# Altium footprint library SP-140520.PcbLib: 39 footprints (part 5 of 6)
Each footprint in its own frame and in the unit in brackets; x right, y up, seen from the top. Pads: shape width x height; smd on the part's side, far side on the other; paste and mask are expansions set on the pad; w line width, h text height; cw(c..) or ccw(c..) is an arc to the next point about the centre after c.
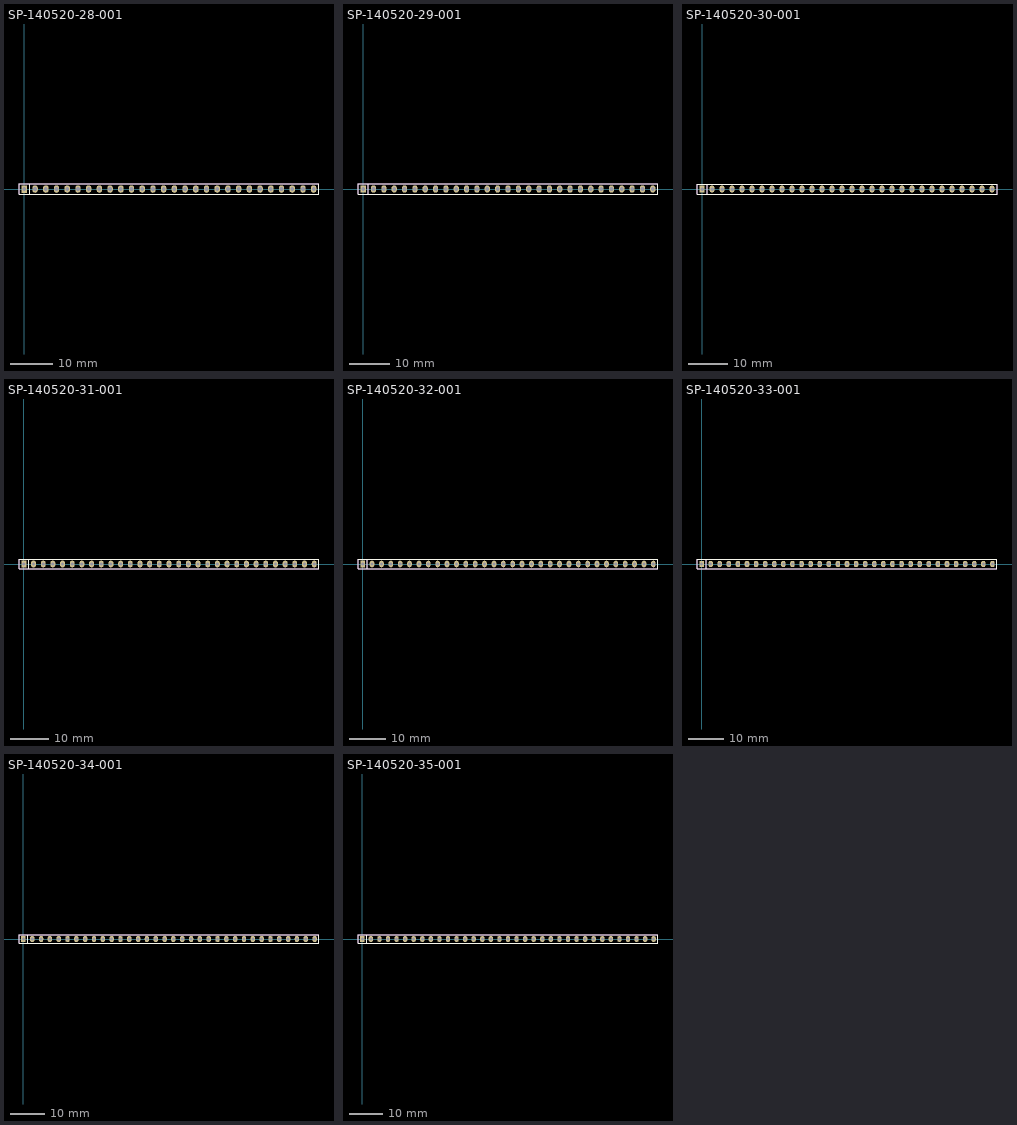
[diagram p4: the footprints below, top view; thin cyan lines are the x and y axes]

## SP-140520-28-001 [mil] "2.54mm Pitch Socket, Single Row, Straight"
pads (28):
  rect 50x70 hole 35: 1(0,0)
  oval 50x70 hole 35: 2(100,0) 3(200,0) 4(300,0) 5(400,0) 6(500,0) 7(600,0) 8(700,0) 9(800,0) 10(900,0) 11(1000,0) 12(1100,0) 13(1200,0) 14(1300,0) 15(1400,0) 16(1500,0) 17(1600,0) 18(1700,0) 19(1800,0) 20(1900,0) 21(2000,0) 22(2100,0) 23(2200,0) 24(2300,0) 25(2400,0) 26(2500,0) 27(2600,0) 28(2700,0)
Top Overlay:
  lines w7.87: 50,-50 50,50 ; -50,-50 -50,50 2750,50 2750,-50 -50,-50
Mechanical 1:
  lines w7.87: 50,-50 50,50 ; -50,-50 2750,-50 2750,50 -50,50 -50,-50
3D body: height 59.06, standoff 0, extent -50.2,-50.2 50.2,50.2
3D body: height 78.74, standoff -413.39, extent -15.75,-15.75 15.75,15.75
3D body: height 334.65, standoff 59.06, extent -50.2,26.57 50.2,50.2
3D body: height 334.65, standoff 59.06, extent -50.2,-50.2 50.2,-26.57
3D body: height 334.65, standoff 59.06, extent 26.57,-26.57 50.2,26.57
3D body: height 334.65, standoff 59.06, extent -50.2,-26.57 -26.57,26.57
3D body: height 59.06, standoff 0, extent 49.8,-50.2 150.2,50.2
3D body: height 78.74, standoff -413.39, extent 84.25,-15.75 115.75,15.75
3D body: height 334.65, standoff 59.06, extent 49.8,26.57 150.2,50.2
3D body: height 334.65, standoff 59.06, extent 49.8,-50.2 150.2,-26.57
3D body: height 334.65, standoff 59.06, extent 126.57,-26.57 150.2,26.57
3D body: height 334.65, standoff 59.06, extent 49.8,-26.57 73.43,26.57
3D body: height 59.06, standoff 0, extent 149.8,-50.2 250.2,50.2
3D body: height 78.74, standoff -413.39, extent 184.25,-15.75 215.75,15.75
3D body: height 334.65, standoff 59.06, extent 149.8,26.57 250.2,50.2
3D body: height 334.65, standoff 59.06, extent 149.8,-50.2 250.2,-26.57
3D body: height 334.65, standoff 59.06, extent 226.57,-26.57 250.2,26.57
3D body: height 334.65, standoff 59.06, extent 149.8,-26.57 173.43,26.57
3D body: height 59.06, standoff 0, extent 249.8,-50.2 350.2,50.2
3D body: height 78.74, standoff -413.39, extent 284.25,-15.75 315.75,15.75
3D body: height 334.65, standoff 59.06, extent 249.8,26.57 350.2,50.2
3D body: height 334.65, standoff 59.06, extent 249.8,-50.2 350.2,-26.57
3D body: height 334.65, standoff 59.06, extent 326.57,-26.57 350.2,26.57
3D body: height 334.65, standoff 59.06, extent 249.8,-26.57 273.43,26.57
3D body: height 59.06, standoff 0, extent 349.8,-50.2 450.2,50.2
3D body: height 78.74, standoff -413.39, extent 384.25,-15.75 415.75,15.75
3D body: height 334.65, standoff 59.06, extent 349.8,26.57 450.2,50.2
3D body: height 334.65, standoff 59.06, extent 349.8,-50.2 450.2,-26.57
3D body: height 334.65, standoff 59.06, extent 426.57,-26.57 450.2,26.57
3D body: height 334.65, standoff 59.06, extent 349.8,-26.57 373.43,26.57
3D body: height 59.06, standoff 0, extent 449.8,-50.2 550.2,50.2
3D body: height 78.74, standoff -413.39, extent 484.25,-15.75 515.75,15.75
3D body: height 334.65, standoff 59.06, extent 449.8,26.57 550.2,50.2
3D body: height 334.65, standoff 59.06, extent 449.8,-50.2 550.2,-26.57
3D body: height 334.65, standoff 59.06, extent 526.57,-26.57 550.2,26.57
3D body: height 334.65, standoff 59.06, extent 449.8,-26.57 473.43,26.57
3D body: height 59.06, standoff 0, extent 549.8,-50.2 650.2,50.2
3D body: height 78.74, standoff -413.39, extent 584.25,-15.75 615.75,15.75
3D body: height 334.65, standoff 59.06, extent 549.8,26.57 650.2,50.2
3D body: height 334.65, standoff 59.06, extent 549.8,-50.2 650.2,-26.57
3D body: height 334.65, standoff 59.06, extent 626.57,-26.57 650.2,26.57
3D body: height 334.65, standoff 59.06, extent 549.8,-26.57 573.43,26.57
3D body: height 59.06, standoff 0, extent 649.8,-50.2 750.2,50.2
3D body: height 78.74, standoff -413.39, extent 684.25,-15.75 715.75,15.75
3D body: height 334.65, standoff 59.06, extent 649.8,26.57 750.2,50.2
3D body: height 334.65, standoff 59.06, extent 649.8,-50.2 750.2,-26.57
3D body: height 334.65, standoff 59.06, extent 726.57,-26.57 750.2,26.57
3D body: height 334.65, standoff 59.06, extent 649.8,-26.57 673.43,26.57
3D body: height 59.06, standoff 0, extent 749.8,-50.2 850.2,50.2
3D body: height 78.74, standoff -413.39, extent 784.25,-15.75 815.75,15.75
3D body: height 334.65, standoff 59.06, extent 749.8,26.57 850.2,50.2
3D body: height 334.65, standoff 59.06, extent 749.8,-50.2 850.2,-26.57
3D body: height 334.65, standoff 59.06, extent 826.57,-26.57 850.2,26.57
3D body: height 334.65, standoff 59.06, extent 749.8,-26.57 773.43,26.57
3D body: height 59.06, standoff 0, extent 849.8,-50.2 950.2,50.2
3D body: height 78.74, standoff -413.39, extent 884.25,-15.75 915.75,15.75
3D body: height 334.65, standoff 59.06, extent 849.8,26.57 950.2,50.2
3D body: height 334.65, standoff 59.06, extent 849.8,-50.2 950.2,-26.57
3D body: height 334.65, standoff 59.06, extent 926.57,-26.57 950.2,26.57
3D body: height 334.65, standoff 59.06, extent 849.8,-26.57 873.43,26.57
3D body: height 59.06, standoff 0, extent 949.8,-50.2 1050.2,50.2
3D body: height 78.74, standoff -413.39, extent 984.25,-15.75 1015.75,15.75
3D body: height 334.65, standoff 59.06, extent 949.8,26.57 1050.2,50.2
3D body: height 334.65, standoff 59.06, extent 949.8,-50.2 1050.2,-26.57
3D body: height 334.65, standoff 59.06, extent 1026.57,-26.57 1050.2,26.57
3D body: height 334.65, standoff 59.06, extent 949.8,-26.57 973.43,26.57
3D body: height 59.06, standoff 0, extent 1049.8,-50.2 1150.2,50.2
3D body: height 78.74, standoff -413.39, extent 1084.25,-15.75 1115.75,15.75
3D body: height 334.65, standoff 59.06, extent 1049.8,26.57 1150.2,50.2
3D body: height 334.65, standoff 59.06, extent 1049.8,-50.2 1150.2,-26.57
3D body: height 334.65, standoff 59.06, extent 1126.57,-26.57 1150.2,26.57
3D body: height 334.65, standoff 59.06, extent 1049.8,-26.57 1073.43,26.57
3D body: height 59.06, standoff 0, extent 1149.8,-50.2 1250.2,50.2
3D body: height 78.74, standoff -413.39, extent 1184.25,-15.75 1215.75,15.75
3D body: height 334.65, standoff 59.06, extent 1149.8,26.57 1250.2,50.2
3D body: height 334.65, standoff 59.06, extent 1149.8,-50.2 1250.2,-26.57
3D body: height 334.65, standoff 59.06, extent 1226.57,-26.57 1250.2,26.57
3D body: height 334.65, standoff 59.06, extent 1149.8,-26.57 1173.43,26.57
3D body: height 59.06, standoff 0, extent 1249.8,-50.2 1350.2,50.2
3D body: height 78.74, standoff -413.39, extent 1284.25,-15.75 1315.75,15.75
3D body: height 334.65, standoff 59.06, extent 1249.8,26.57 1350.2,50.2
3D body: height 334.65, standoff 59.06, extent 1249.8,-50.2 1350.2,-26.57
3D body: height 334.65, standoff 59.06, extent 1326.57,-26.57 1350.2,26.57
3D body: height 334.65, standoff 59.06, extent 1249.8,-26.57 1273.43,26.57
3D body: height 59.06, standoff 0, extent 1349.8,-50.2 1450.2,50.2
3D body: height 78.74, standoff -413.39, extent 1384.25,-15.75 1415.75,15.75
3D body: height 334.65, standoff 59.06, extent 1349.8,26.57 1450.2,50.2
3D body: height 334.65, standoff 59.06, extent 1349.8,-50.2 1450.2,-26.57
3D body: height 334.65, standoff 59.06, extent 1426.57,-26.57 1450.2,26.57
3D body: height 334.65, standoff 59.06, extent 1349.8,-26.57 1373.43,26.57
3D body: height 59.06, standoff 0, extent 1449.8,-50.2 1550.2,50.2
3D body: height 78.74, standoff -413.39, extent 1484.25,-15.75 1515.75,15.75
3D body: height 334.65, standoff 59.06, extent 1449.8,26.57 1550.2,50.2
3D body: height 334.65, standoff 59.06, extent 1449.8,-50.2 1550.2,-26.57
3D body: height 334.65, standoff 59.06, extent 1526.57,-26.57 1550.2,26.57
3D body: height 334.65, standoff 59.06, extent 1449.8,-26.57 1473.43,26.57
3D body: height 59.06, standoff 0, extent 1549.8,-50.2 1650.2,50.2
3D body: height 78.74, standoff -413.39, extent 1584.25,-15.75 1615.75,15.75
3D body: height 334.65, standoff 59.06, extent 1549.8,26.57 1650.2,50.2
3D body: height 334.65, standoff 59.06, extent 1549.8,-50.2 1650.2,-26.57
3D body: height 334.65, standoff 59.06, extent 1626.57,-26.57 1650.2,26.57
3D body: height 334.65, standoff 59.06, extent 1549.8,-26.57 1573.43,26.57
3D body: height 59.06, standoff 0, extent 1649.8,-50.2 1750.2,50.2
3D body: height 78.74, standoff -413.39, extent 1684.25,-15.75 1715.75,15.75
3D body: height 334.65, standoff 59.06, extent 1649.8,26.57 1750.2,50.2
3D body: height 334.65, standoff 59.06, extent 1649.8,-50.2 1750.2,-26.57
3D body: height 334.65, standoff 59.06, extent 1726.57,-26.57 1750.2,26.57
3D body: height 334.65, standoff 59.06, extent 1649.8,-26.57 1673.43,26.57
3D body: height 59.06, standoff 0, extent 1749.8,-50.2 1850.2,50.2
3D body: height 78.74, standoff -413.39, extent 1784.25,-15.75 1815.75,15.75
3D body: height 334.65, standoff 59.06, extent 1749.8,26.57 1850.2,50.2
3D body: height 334.65, standoff 59.06, extent 1749.8,-50.2 1850.2,-26.57
3D body: height 334.65, standoff 59.06, extent 1826.57,-26.57 1850.2,26.57
3D body: height 334.65, standoff 59.06, extent 1749.8,-26.57 1773.43,26.57
3D body: height 59.06, standoff 0, extent 1849.8,-50.2 1950.2,50.2
3D body: height 78.74, standoff -413.39, extent 1884.25,-15.75 1915.75,15.75
3D body: height 334.65, standoff 59.06, extent 1849.8,26.57 1950.2,50.2
3D body: height 334.65, standoff 59.06, extent 1849.8,-50.2 1950.2,-26.57
3D body: height 334.65, standoff 59.06, extent 1926.57,-26.57 1950.2,26.57
3D body: height 334.65, standoff 59.06, extent 1849.8,-26.57 1873.43,26.57
3D body: height 59.06, standoff 0, extent 1949.8,-50.2 2050.2,50.2
3D body: height 78.74, standoff -413.39, extent 1984.25,-15.75 2015.75,15.75
3D body: height 334.65, standoff 59.06, extent 1949.8,26.57 2050.2,50.2
3D body: height 334.65, standoff 59.06, extent 1949.8,-50.2 2050.2,-26.57
3D body: height 334.65, standoff 59.06, extent 2026.57,-26.57 2050.2,26.57
3D body: height 334.65, standoff 59.06, extent 1949.8,-26.57 1973.43,26.57
3D body: height 59.06, standoff 0, extent 2049.8,-50.2 2150.2,50.2
3D body: height 78.74, standoff -413.39, extent 2084.25,-15.75 2115.75,15.75
3D body: height 334.65, standoff 59.06, extent 2049.8,26.57 2150.2,50.2
3D body: height 334.65, standoff 59.06, extent 2049.8,-50.2 2150.2,-26.57
3D body: height 334.65, standoff 59.06, extent 2126.57,-26.57 2150.2,26.57
3D body: height 334.65, standoff 59.06, extent 2049.8,-26.57 2073.43,26.57
3D body: height 59.06, standoff 0, extent 2149.8,-50.2 2250.2,50.2
3D body: height 78.74, standoff -413.39, extent 2184.25,-15.75 2215.75,15.75
3D body: height 334.65, standoff 59.06, extent 2149.8,26.57 2250.2,50.2
3D body: height 334.65, standoff 59.06, extent 2149.8,-50.2 2250.2,-26.57
3D body: height 334.65, standoff 59.06, extent 2226.57,-26.57 2250.2,26.57
3D body: height 334.65, standoff 59.06, extent 2149.8,-26.57 2173.43,26.57
3D body: height 59.06, standoff 0, extent 2249.8,-50.2 2350.2,50.2
3D body: height 78.74, standoff -413.39, extent 2284.25,-15.75 2315.75,15.75
3D body: height 334.65, standoff 59.06, extent 2249.8,26.57 2350.2,50.2
3D body: height 334.65, standoff 59.06, extent 2249.8,-50.2 2350.2,-26.57
3D body: height 334.65, standoff 59.06, extent 2326.57,-26.57 2350.2,26.57
3D body: height 334.65, standoff 59.06, extent 2249.8,-26.57 2273.43,26.57
3D body: height 59.06, standoff 0, extent 2349.8,-50.2 2450.2,50.2
3D body: height 78.74, standoff -413.39, extent 2384.25,-15.75 2415.75,15.75
3D body: height 334.65, standoff 59.06, extent 2349.8,26.57 2450.2,50.2
3D body: height 334.65, standoff 59.06, extent 2349.8,-50.2 2450.2,-26.57
3D body: height 334.65, standoff 59.06, extent 2426.57,-26.57 2450.2,26.57
3D body: height 334.65, standoff 59.06, extent 2349.8,-26.57 2373.43,26.57
3D body: height 59.06, standoff 0, extent 2449.8,-50.2 2550.2,50.2
3D body: height 78.74, standoff -413.39, extent 2484.25,-15.75 2515.75,15.75
3D body: height 334.65, standoff 59.06, extent 2449.8,26.57 2550.2,50.2
3D body: height 334.65, standoff 59.06, extent 2449.8,-50.2 2550.2,-26.57
3D body: height 334.65, standoff 59.06, extent 2526.57,-26.57 2550.2,26.57
3D body: height 334.65, standoff 59.06, extent 2449.8,-26.57 2473.43,26.57
3D body: height 59.06, standoff 0, extent 2549.8,-50.2 2650.2,50.2
3D body: height 78.74, standoff -413.39, extent 2584.25,-15.75 2615.75,15.75
3D body: height 334.65, standoff 59.06, extent 2549.8,26.57 2650.2,50.2
3D body: height 334.65, standoff 59.06, extent 2549.8,-50.2 2650.2,-26.57
3D body: height 334.65, standoff 59.06, extent 2626.57,-26.57 2650.2,26.57
3D body: height 334.65, standoff 59.06, extent 2549.8,-26.57 2573.43,26.57
3D body: height 59.06, standoff 0, extent 2649.8,-50.2 2750.2,50.2
3D body: height 78.74, standoff -413.39, extent 2684.25,-15.75 2715.75,15.75
3D body: height 334.65, standoff 59.06, extent 2649.8,26.57 2750.2,50.2
3D body: height 334.65, standoff 59.06, extent 2649.8,-50.2 2750.2,-26.57
3D body: height 334.65, standoff 59.06, extent 2726.57,-26.57 2750.2,26.57
3D body: height 334.65, standoff 59.06, extent 2649.8,-26.57 2673.43,26.57

## SP-140520-29-001 [mil] "2.54mm Pitch Socket, Single Row, Straight"
pads (29):
  rect 50x70 hole 35: 1(0,0)
  oval 50x70 hole 35: 2(100,0) 3(200,0) 4(300,0) 5(400,0) 6(500,0) 7(600,0) 8(700,0) 9(800,0) 10(900,0) 11(1000,0) 12(1100,0) 13(1200,0) 14(1300,0) 15(1400,0) 16(1500,0) 17(1600,0) 18(1700,0) 19(1800,0) 20(1900,0) 21(2000,0) 22(2100,0) 23(2200,0) 24(2300,0) 25(2400,0) 26(2500,0) 27(2600,0) 28(2700,0) 29(2800,0)
Top Overlay:
  lines w7.87: 50,-50 50,50 ; -50,-50 -50,50 2850,50 2850,-50 -50,-50
Mechanical 1:
  lines w7.87: 50,-50 50,50 ; -50,-50 2850,-50 2850,50 -50,50 -50,-50
3D body: height 320, standoff -90, extent 2687.5,-12.5 2712.5,12.5
3D body: height 90, standoff 0, extent 2650,-45.99 2750,46
3D body: height 320, standoff -90, extent 2587.5,-12.5 2612.5,12.5
3D body: height 90, standoff 0, extent 2550,-45.99 2650,46
3D body: height 320, standoff -90, extent 2487.5,-12.5 2512.5,12.5
3D body: height 90, standoff 0, extent 2450,-45.99 2550,46
3D body: height 320, standoff -90, extent 2387.5,-12.5 2412.5,12.5
3D body: height 90, standoff 0, extent 2350,-45.99 2450,46
3D body: height 320, standoff -90, extent 2787.5,-12.5 2812.5,12.5
3D body: height 90, standoff 0, extent 2750,-45.99 2850,46
3D body: height 320, standoff -90, extent 1887.5,-12.5 1912.5,12.5
3D body: height 90, standoff 0, extent 1850,-45.99 1950,46
3D body: height 320, standoff -90, extent 1787.5,-12.5 1812.5,12.5
3D body: height 90, standoff 0, extent 1750,-45.99 1850,46
3D body: height 320, standoff -90, extent 1687.5,-12.5 1712.5,12.5
3D body: height 90, standoff 0, extent 1650,-45.99 1750,46
3D body: height 320, standoff -90, extent 1587.5,-12.5 1612.5,12.5
3D body: height 90, standoff 0, extent 1550,-45.99 1650,46
3D body: height 320, standoff -90, extent 2287.5,-12.5 2312.5,12.5
3D body: height 90, standoff 0, extent 2250,-45.99 2350,46
3D body: height 320, standoff -90, extent 2187.5,-12.5 2212.5,12.5
3D body: height 90, standoff 0, extent 2150,-45.99 2250,46
3D body: height 320, standoff -90, extent 2087.5,-12.5 2112.5,12.5
3D body: height 90, standoff 0, extent 2050,-45.99 2150,46
3D body: height 320, standoff -90, extent 1987.5,-12.5 2012.5,12.5
3D body: height 90, standoff 0, extent 1950,-45.99 2050,46
3D body: height 320, standoff -90, extent 1087.5,-12.5 1112.5,12.5
3D body: height 90, standoff 0, extent 1050,-45.99 1150,46
3D body: height 320, standoff -90, extent 987.5,-12.5 1012.5,12.5
3D body: height 90, standoff 0, extent 950,-45.99 1050,46
3D body: height 320, standoff -90, extent 887.5,-12.5 912.5,12.5
3D body: height 90, standoff 0, extent 850,-45.99 950,46
3D body: height 320, standoff -90, extent 787.5,-12.5 812.5,12.5
3D body: height 90, standoff 0, extent 750,-45.99 850,46
3D body: height 320, standoff -90, extent 1487.5,-12.5 1512.5,12.5
3D body: height 90, standoff 0, extent 1450,-45.99 1550,46
3D body: height 320, standoff -90, extent 1387.5,-12.5 1412.5,12.5
3D body: height 90, standoff 0, extent 1350,-45.99 1450,46
3D body: height 320, standoff -90, extent 1287.5,-12.5 1312.5,12.5
3D body: height 90, standoff 0, extent 1250,-45.99 1350,46
3D body: height 320, standoff -90, extent 1187.5,-12.5 1212.5,12.5
3D body: height 90, standoff 0, extent 1150,-45.99 1250,46
3D body: height 320, standoff -90, extent 287.5,-12.5 312.5,12.5
3D body: height 90, standoff 0, extent 250,-45.99 350,46
3D body: height 320, standoff -90, extent 187.5,-12.5 212.5,12.5
3D body: height 90, standoff 0, extent 150,-45.99 250,46
3D body: height 320, standoff -90, extent 87.5,-12.5 112.5,12.5
3D body: height 90, standoff 0, extent 50,-45.99 150,46
3D body: height 320, standoff -90, extent -12.5,-12.5 12.5,12.5
3D body: height 90, standoff 0, extent -50,-45.99 50,46
3D body: height 320, standoff -90, extent 687.5,-12.5 712.5,12.5
3D body: height 90, standoff 0, extent 650,-45.99 750,46
3D body: height 320, standoff -90, extent 587.5,-12.5 612.5,12.5
3D body: height 90, standoff 0, extent 550,-45.99 650,46
3D body: height 320, standoff -90, extent 487.5,-12.5 512.5,12.5
3D body: height 90, standoff 0, extent 450,-45.99 550,46
3D body: height 320, standoff -90, extent 387.5,-12.5 412.5,12.5
3D body: height 90, standoff 0, extent 350,-45.99 450,46

## SP-140520-30-001 [mil] "2.54mm Pitch Socket, Single Row, Straight"
pads (30):
  rect 50x70 hole 35: 1(0,0)
  oval 50x70 hole 35: 2(100,0) 3(200,0) 4(300,0) 5(400,0) 6(500,0) 7(600,0) 8(700,0) 9(800,0) 10(900,0) 11(1000,0) 12(1100,0) 13(1200,0) 14(1300,0) 15(1400,0) 16(1500,0) 17(1600,0) 18(1700,0) 19(1800,0) 20(1900,0) 21(2000,0) 22(2100,0) 23(2200,0) 24(2300,0) 25(2400,0) 26(2500,0) 27(2600,0) 28(2700,0) 29(2800,0) 30(2900,0)
Top Overlay:
  lines w7.87: 50,-50 50,50 ; -50,-50 2950,-50 2950,50 -50,50 -50,-50
Mechanical 1:
  lines w7.87: 50,-50 50,50 ; -50,-50 -50,50 2950,50 2950,-50 -50,-50
3D body: height 320, standoff -90, extent 2687.5,-12.5 2712.5,12.5
3D body: height 90, standoff 0, extent 2650,-45.99 2750,46
3D body: height 320, standoff -90, extent 2587.5,-12.5 2612.5,12.5
3D body: height 90, standoff 0, extent 2550,-45.99 2650,46
3D body: height 320, standoff -90, extent 2487.5,-12.5 2512.5,12.5
3D body: height 90, standoff 0, extent 2450,-45.99 2550,46
3D body: height 320, standoff -90, extent 2387.5,-12.5 2412.5,12.5
3D body: height 90, standoff 0, extent 2350,-45.99 2450,46
3D body: height 320, standoff -90, extent 2887.5,-12.5 2912.5,12.5
3D body: height 90, standoff 0, extent 2850,-45.99 2950,46
3D body: height 320, standoff -90, extent 2787.5,-12.5 2812.5,12.5
3D body: height 90, standoff 0, extent 2750,-45.99 2850,46
3D body: height 320, standoff -90, extent 1887.5,-12.5 1912.5,12.5
3D body: height 90, standoff 0, extent 1850,-45.99 1950,46
3D body: height 320, standoff -90, extent 1787.5,-12.5 1812.5,12.5
3D body: height 90, standoff 0, extent 1750,-45.99 1850,46
3D body: height 320, standoff -90, extent 1687.5,-12.5 1712.5,12.5
3D body: height 90, standoff 0, extent 1650,-45.99 1750,46
3D body: height 320, standoff -90, extent 1587.5,-12.5 1612.5,12.5
3D body: height 90, standoff 0, extent 1550,-45.99 1650,46
3D body: height 320, standoff -90, extent 2287.5,-12.5 2312.5,12.5
3D body: height 90, standoff 0, extent 2250,-45.99 2350,46
3D body: height 320, standoff -90, extent 2187.5,-12.5 2212.5,12.5
3D body: height 90, standoff 0, extent 2150,-45.99 2250,46
3D body: height 320, standoff -90, extent 2087.5,-12.5 2112.5,12.5
3D body: height 90, standoff 0, extent 2050,-45.99 2150,46
3D body: height 320, standoff -90, extent 1987.5,-12.5 2012.5,12.5
3D body: height 90, standoff 0, extent 1950,-45.99 2050,46
3D body: height 320, standoff -90, extent 1087.5,-12.5 1112.5,12.5
3D body: height 90, standoff 0, extent 1050,-45.99 1150,46
3D body: height 320, standoff -90, extent 987.5,-12.5 1012.5,12.5
3D body: height 90, standoff 0, extent 950,-45.99 1050,46
3D body: height 320, standoff -90, extent 887.5,-12.5 912.5,12.5
3D body: height 90, standoff 0, extent 850,-45.99 950,46
3D body: height 320, standoff -90, extent 787.5,-12.5 812.5,12.5
3D body: height 90, standoff 0, extent 750,-45.99 850,46
3D body: height 320, standoff -90, extent 1487.5,-12.5 1512.5,12.5
3D body: height 90, standoff 0, extent 1450,-45.99 1550,46
3D body: height 320, standoff -90, extent 1387.5,-12.5 1412.5,12.5
3D body: height 90, standoff 0, extent 1350,-45.99 1450,46
3D body: height 320, standoff -90, extent 1287.5,-12.5 1312.5,12.5
3D body: height 90, standoff 0, extent 1250,-45.99 1350,46
3D body: height 320, standoff -90, extent 1187.5,-12.5 1212.5,12.5
3D body: height 90, standoff 0, extent 1150,-45.99 1250,46
3D body: height 320, standoff -90, extent 287.5,-12.5 312.5,12.5
3D body: height 90, standoff 0, extent 250,-45.99 350,46
3D body: height 320, standoff -90, extent 187.5,-12.5 212.5,12.5
3D body: height 90, standoff 0, extent 150,-45.99 250,46
3D body: height 320, standoff -90, extent 87.5,-12.5 112.5,12.5
3D body: height 90, standoff 0, extent 50,-45.99 150,46
3D body: height 320, standoff -90, extent -12.5,-12.5 12.5,12.5
3D body: height 90, standoff 0, extent -50,-45.99 50,46
3D body: height 320, standoff -90, extent 687.5,-12.5 712.5,12.5
3D body: height 90, standoff 0, extent 650,-45.99 750,46
3D body: height 320, standoff -90, extent 587.5,-12.5 612.5,12.5
3D body: height 90, standoff 0, extent 550,-45.99 650,46
3D body: height 320, standoff -90, extent 487.5,-12.5 512.5,12.5
3D body: height 90, standoff 0, extent 450,-45.99 550,46
3D body: height 320, standoff -90, extent 387.5,-12.5 412.5,12.5
3D body: height 90, standoff 0, extent 350,-45.99 450,46

## SP-140520-31-001 [mil] "2.54mm Pitch Socket, Single Row, Straight"
pads (31):
  rect 50x70 hole 35: 1(0,0)
  oval 50x70 hole 35: 2(100,0) 3(200,0) 4(300,0) 5(400,0) 6(500,0) 7(600,0) 8(700,0) 9(800,0) 10(900,0) 11(1000,0) 12(1100,0) 13(1200,0) 14(1300,0) 15(1400,0) 16(1500,0) 17(1600,0) 18(1700,0) 19(1800,0) 20(1900,0) 21(2000,0) 22(2100,0) 23(2200,0) 24(2300,0) 25(2400,0) 26(2500,0) 27(2600,0) 28(2700,0) 29(2800,0) 30(2900,0) 31(3000,0)
Top Overlay:
  lines w7.87: 50,-50 50,50 ; -50,-50 -50,50 3050,50 3050,-50 -50,-50
Mechanical 1:
  lines w7.87: 50,-50 50,50 ; -50,-50 3050,-50 3050,50 -50,50 -50,-50
3D body: height 320, standoff -90, extent 2687.5,-12.5 2712.5,12.5
3D body: height 90, standoff 0, extent 2650,-45.99 2750,46
3D body: height 320, standoff -90, extent 2587.5,-12.5 2612.5,12.5
3D body: height 90, standoff 0, extent 2550,-45.99 2650,46
3D body: height 320, standoff -90, extent 2487.5,-12.5 2512.5,12.5
3D body: height 90, standoff 0, extent 2450,-45.99 2550,46
3D body: height 320, standoff -90, extent 2387.5,-12.5 2412.5,12.5
3D body: height 90, standoff 0, extent 2350,-45.99 2450,46
3D body: height 320, standoff -90, extent 2987.5,-12.5 3012.5,12.5
3D body: height 90, standoff 0, extent 2950,-45.99 3050,46
3D body: height 320, standoff -90, extent 2887.5,-12.5 2912.5,12.5
3D body: height 90, standoff 0, extent 2850,-45.99 2950,46
3D body: height 320, standoff -90, extent 2787.5,-12.5 2812.5,12.5
3D body: height 90, standoff 0, extent 2750,-45.99 2850,46
3D body: height 320, standoff -90, extent 1887.5,-12.5 1912.5,12.5
3D body: height 90, standoff 0, extent 1850,-45.99 1950,46
3D body: height 320, standoff -90, extent 1787.5,-12.5 1812.5,12.5
3D body: height 90, standoff 0, extent 1750,-45.99 1850,46
3D body: height 320, standoff -90, extent 1687.5,-12.5 1712.5,12.5
3D body: height 90, standoff 0, extent 1650,-45.99 1750,46
3D body: height 320, standoff -90, extent 1587.5,-12.5 1612.5,12.5
3D body: height 90, standoff 0, extent 1550,-45.99 1650,46
3D body: height 320, standoff -90, extent 2287.5,-12.5 2312.5,12.5
3D body: height 90, standoff 0, extent 2250,-45.99 2350,46
3D body: height 320, standoff -90, extent 2187.5,-12.5 2212.5,12.5
3D body: height 90, standoff 0, extent 2150,-45.99 2250,46
3D body: height 320, standoff -90, extent 2087.5,-12.5 2112.5,12.5
3D body: height 90, standoff 0, extent 2050,-45.99 2150,46
3D body: height 320, standoff -90, extent 1987.5,-12.5 2012.5,12.5
3D body: height 90, standoff 0, extent 1950,-45.99 2050,46
3D body: height 320, standoff -90, extent 1087.5,-12.5 1112.5,12.5
3D body: height 90, standoff 0, extent 1050,-45.99 1150,46
3D body: height 320, standoff -90, extent 987.5,-12.5 1012.5,12.5
3D body: height 90, standoff 0, extent 950,-45.99 1050,46
3D body: height 320, standoff -90, extent 887.5,-12.5 912.5,12.5
3D body: height 90, standoff 0, extent 850,-45.99 950,46
3D body: height 320, standoff -90, extent 787.5,-12.5 812.5,12.5
3D body: height 90, standoff 0, extent 750,-45.99 850,46
3D body: height 320, standoff -90, extent 1487.5,-12.5 1512.5,12.5
3D body: height 90, standoff 0, extent 1450,-45.99 1550,46
3D body: height 320, standoff -90, extent 1387.5,-12.5 1412.5,12.5
3D body: height 90, standoff 0, extent 1350,-45.99 1450,46
3D body: height 320, standoff -90, extent 1287.5,-12.5 1312.5,12.5
3D body: height 90, standoff 0, extent 1250,-45.99 1350,46
3D body: height 320, standoff -90, extent 1187.5,-12.5 1212.5,12.5
3D body: height 90, standoff 0, extent 1150,-45.99 1250,46
3D body: height 320, standoff -90, extent 287.5,-12.5 312.5,12.5
3D body: height 90, standoff 0, extent 250,-45.99 350,46
3D body: height 320, standoff -90, extent 187.5,-12.5 212.5,12.5
3D body: height 90, standoff 0, extent 150,-45.99 250,46
3D body: height 320, standoff -90, extent 87.5,-12.5 112.5,12.5
3D body: height 90, standoff 0, extent 50,-45.99 150,46
3D body: height 320, standoff -90, extent -12.5,-12.5 12.5,12.5
3D body: height 90, standoff 0, extent -50,-45.99 50,46
3D body: height 320, standoff -90, extent 687.5,-12.5 712.5,12.5
3D body: height 90, standoff 0, extent 650,-45.99 750,46
3D body: height 320, standoff -90, extent 587.5,-12.5 612.5,12.5
3D body: height 90, standoff 0, extent 550,-45.99 650,46
3D body: height 320, standoff -90, extent 487.5,-12.5 512.5,12.5
3D body: height 90, standoff 0, extent 450,-45.99 550,46
3D body: height 320, standoff -90, extent 387.5,-12.5 412.5,12.5
3D body: height 90, standoff 0, extent 350,-45.99 450,46

## SP-140520-32-001 [mil] "2.54mm Pitch Socket, Single Row, Straight"
pads (32):
  rect 50x70 hole 35: 1(0,0)
  oval 50x70 hole 35: 2(100,0) 3(200,0) 4(300,0) 5(400,0) 6(500,0) 7(600,0) 8(700,0) 9(800,0) 10(900,0) 11(1000,0) 12(1100,0) 13(1200,0) 14(1300,0) 15(1400,0) 16(1500,0) 17(1600,0) 18(1700,0) 19(1800,0) 20(1900,0) 21(2000,0) 22(2100,0) 23(2200,0) 24(2300,0) 25(2400,0) 26(2500,0) 27(2600,0) 28(2700,0) 29(2800,0) 30(2900,0) 31(3000,0) 32(3100,0)
Top Overlay:
  lines w7.87: 50,-50 50,50 ; -50,-50 3150,-50 3150,50 -50,50 -50,-50
Mechanical 1:
  lines w7.87: 50,-50 50,50 ; -50,-50 -50,50 3150,50 3150,-50 -50,-50
3D body: height 320, standoff -90, extent 2687.5,-12.5 2712.5,12.5
3D body: height 90, standoff 0, extent 2650,-45.99 2750,46
3D body: height 320, standoff -90, extent 2587.5,-12.5 2612.5,12.5
3D body: height 90, standoff 0, extent 2550,-45.99 2650,46
3D body: height 320, standoff -90, extent 2487.5,-12.5 2512.5,12.5
3D body: height 90, standoff 0, extent 2450,-45.99 2550,46
3D body: height 320, standoff -90, extent 2387.5,-12.5 2412.5,12.5
3D body: height 90, standoff 0, extent 2350,-45.99 2450,46
3D body: height 320, standoff -90, extent 3087.5,-12.5 3112.5,12.5
3D body: height 90, standoff 0, extent 3050,-45.99 3150,46
3D body: height 320, standoff -90, extent 2987.5,-12.5 3012.5,12.5
3D body: height 90, standoff 0, extent 2950,-45.99 3050,46
3D body: height 320, standoff -90, extent 2887.5,-12.5 2912.5,12.5
3D body: height 90, standoff 0, extent 2850,-45.99 2950,46
3D body: height 320, standoff -90, extent 2787.5,-12.5 2812.5,12.5
3D body: height 90, standoff 0, extent 2750,-45.99 2850,46
3D body: height 320, standoff -90, extent 1887.5,-12.5 1912.5,12.5
3D body: height 90, standoff 0, extent 1850,-45.99 1950,46
3D body: height 320, standoff -90, extent 1787.5,-12.5 1812.5,12.5
3D body: height 90, standoff 0, extent 1750,-45.99 1850,46
3D body: height 320, standoff -90, extent 1687.5,-12.5 1712.5,12.5
3D body: height 90, standoff 0, extent 1650,-45.99 1750,46
3D body: height 320, standoff -90, extent 1587.5,-12.5 1612.5,12.5
3D body: height 90, standoff 0, extent 1550,-45.99 1650,46
3D body: height 320, standoff -90, extent 2287.5,-12.5 2312.5,12.5
3D body: height 90, standoff 0, extent 2250,-45.99 2350,46
3D body: height 320, standoff -90, extent 2187.5,-12.5 2212.5,12.5
3D body: height 90, standoff 0, extent 2150,-45.99 2250,46
3D body: height 320, standoff -90, extent 2087.5,-12.5 2112.5,12.5
3D body: height 90, standoff 0, extent 2050,-45.99 2150,46
3D body: height 320, standoff -90, extent 1987.5,-12.5 2012.5,12.5
3D body: height 90, standoff 0, extent 1950,-45.99 2050,46
3D body: height 320, standoff -90, extent 1087.5,-12.5 1112.5,12.5
3D body: height 90, standoff 0, extent 1050,-45.99 1150,46
3D body: height 320, standoff -90, extent 987.5,-12.5 1012.5,12.5
3D body: height 90, standoff 0, extent 950,-45.99 1050,46
3D body: height 320, standoff -90, extent 887.5,-12.5 912.5,12.5
3D body: height 90, standoff 0, extent 850,-45.99 950,46
3D body: height 320, standoff -90, extent 787.5,-12.5 812.5,12.5
3D body: height 90, standoff 0, extent 750,-45.99 850,46
3D body: height 320, standoff -90, extent 1487.5,-12.5 1512.5,12.5
3D body: height 90, standoff 0, extent 1450,-45.99 1550,46
3D body: height 320, standoff -90, extent 1387.5,-12.5 1412.5,12.5
3D body: height 90, standoff 0, extent 1350,-45.99 1450,46
3D body: height 320, standoff -90, extent 1287.5,-12.5 1312.5,12.5
3D body: height 90, standoff 0, extent 1250,-45.99 1350,46
3D body: height 320, standoff -90, extent 1187.5,-12.5 1212.5,12.5
3D body: height 90, standoff 0, extent 1150,-45.99 1250,46
3D body: height 320, standoff -90, extent 287.5,-12.5 312.5,12.5
3D body: height 90, standoff 0, extent 250,-45.99 350,46
3D body: height 320, standoff -90, extent 187.5,-12.5 212.5,12.5
3D body: height 90, standoff 0, extent 150,-45.99 250,46
3D body: height 320, standoff -90, extent 87.5,-12.5 112.5,12.5
3D body: height 90, standoff 0, extent 50,-45.99 150,46
3D body: height 320, standoff -90, extent -12.5,-12.5 12.5,12.5
3D body: height 90, standoff 0, extent -50,-45.99 50,46
3D body: height 320, standoff -90, extent 687.5,-12.5 712.5,12.5
3D body: height 90, standoff 0, extent 650,-45.99 750,46
3D body: height 320, standoff -90, extent 587.5,-12.5 612.5,12.5
3D body: height 90, standoff 0, extent 550,-45.99 650,46
3D body: height 320, standoff -90, extent 487.5,-12.5 512.5,12.5
3D body: height 90, standoff 0, extent 450,-45.99 550,46
3D body: height 320, standoff -90, extent 387.5,-12.5 412.5,12.5
3D body: height 90, standoff 0, extent 350,-45.99 450,46

## SP-140520-33-001 [mil] "2.54mm Pitch Socket, Single Row, Straight"
pads (33):
  rect 50x70 hole 35: 1(0,0)
  oval 50x70 hole 35: 2(100,0) 3(200,0) 4(300,0) 5(400,0) 6(500,0) 7(600,0) 8(700,0) 9(800,0) 10(900,0) 11(1000,0) 12(1100,0) 13(1200,0) 14(1300,0) 15(1400,0) 16(1500,0) 17(1600,0) 18(1700,0) 19(1800,0) 20(1900,0) 21(2000,0) 22(2100,0) 23(2200,0) 24(2300,0) 25(2400,0) 26(2500,0) 27(2600,0) 28(2700,0) 29(2800,0) 30(2900,0) 31(3000,0) 32(3100,0) 33(3200,0)
Top Overlay:
  lines w7.87: 50,-50 50,50 ; -50,-50 -50,50 3250,50 3250,-50 -50,-50
Mechanical 1:
  lines w7.87: 50,-50 50,50 ; -50,-50 3250,-50 3250,50 -50,50 -50,-50
3D body: height 320, standoff -90, extent 3187.5,-12.5 3212.5,12.5
3D body: height 90, standoff 0, extent 3150,-45.99 3250,46
3D body: height 320, standoff -90, extent 2687.5,-12.5 2712.5,12.5
3D body: height 90, standoff 0, extent 2650,-45.99 2750,46
3D body: height 320, standoff -90, extent 2587.5,-12.5 2612.5,12.5
3D body: height 90, standoff 0, extent 2550,-45.99 2650,46
3D body: height 320, standoff -90, extent 2487.5,-12.5 2512.5,12.5
3D body: height 90, standoff 0, extent 2450,-45.99 2550,46
3D body: height 320, standoff -90, extent 2387.5,-12.5 2412.5,12.5
3D body: height 90, standoff 0, extent 2350,-45.99 2450,46
3D body: height 320, standoff -90, extent 3087.5,-12.5 3112.5,12.5
3D body: height 90, standoff 0, extent 3050,-45.99 3150,46
3D body: height 320, standoff -90, extent 2987.5,-12.5 3012.5,12.5
3D body: height 90, standoff 0, extent 2950,-45.99 3050,46
3D body: height 320, standoff -90, extent 2887.5,-12.5 2912.5,12.5
3D body: height 90, standoff 0, extent 2850,-45.99 2950,46
3D body: height 320, standoff -90, extent 2787.5,-12.5 2812.5,12.5
3D body: height 90, standoff 0, extent 2750,-45.99 2850,46
3D body: height 320, standoff -90, extent 1887.5,-12.5 1912.5,12.5
3D body: height 90, standoff 0, extent 1850,-45.99 1950,46
3D body: height 320, standoff -90, extent 1787.5,-12.5 1812.5,12.5
3D body: height 90, standoff 0, extent 1750,-45.99 1850,46
3D body: height 320, standoff -90, extent 1687.5,-12.5 1712.5,12.5
3D body: height 90, standoff 0, extent 1650,-45.99 1750,46
3D body: height 320, standoff -90, extent 1587.5,-12.5 1612.5,12.5
3D body: height 90, standoff 0, extent 1550,-45.99 1650,46
3D body: height 320, standoff -90, extent 2287.5,-12.5 2312.5,12.5
3D body: height 90, standoff 0, extent 2250,-45.99 2350,46
3D body: height 320, standoff -90, extent 2187.5,-12.5 2212.5,12.5
3D body: height 90, standoff 0, extent 2150,-45.99 2250,46
3D body: height 320, standoff -90, extent 2087.5,-12.5 2112.5,12.5
3D body: height 90, standoff 0, extent 2050,-45.99 2150,46
3D body: height 320, standoff -90, extent 1987.5,-12.5 2012.5,12.5
3D body: height 90, standoff 0, extent 1950,-45.99 2050,46
3D body: height 320, standoff -90, extent 1087.5,-12.5 1112.5,12.5
3D body: height 90, standoff 0, extent 1050,-45.99 1150,46
3D body: height 320, standoff -90, extent 987.5,-12.5 1012.5,12.5
3D body: height 90, standoff 0, extent 950,-45.99 1050,46
3D body: height 320, standoff -90, extent 887.5,-12.5 912.5,12.5
3D body: height 90, standoff 0, extent 850,-45.99 950,46
3D body: height 320, standoff -90, extent 787.5,-12.5 812.5,12.5
3D body: height 90, standoff 0, extent 750,-45.99 850,46
3D body: height 320, standoff -90, extent 1487.5,-12.5 1512.5,12.5
3D body: height 90, standoff 0, extent 1450,-45.99 1550,46
3D body: height 320, standoff -90, extent 1387.5,-12.5 1412.5,12.5
3D body: height 90, standoff 0, extent 1350,-45.99 1450,46
3D body: height 320, standoff -90, extent 1287.5,-12.5 1312.5,12.5
3D body: height 90, standoff 0, extent 1250,-45.99 1350,46
3D body: height 320, standoff -90, extent 1187.5,-12.5 1212.5,12.5
3D body: height 90, standoff 0, extent 1150,-45.99 1250,46
3D body: height 320, standoff -90, extent 287.5,-12.5 312.5,12.5
3D body: height 90, standoff 0, extent 250,-45.99 350,46
3D body: height 320, standoff -90, extent 187.5,-12.5 212.5,12.5
3D body: height 90, standoff 0, extent 150,-45.99 250,46
3D body: height 320, standoff -90, extent 87.5,-12.5 112.5,12.5
3D body: height 90, standoff 0, extent 50,-45.99 150,46
3D body: height 320, standoff -90, extent -12.5,-12.5 12.5,12.5
3D body: height 90, standoff 0, extent -50,-45.99 50,46
3D body: height 320, standoff -90, extent 687.5,-12.5 712.5,12.5
3D body: height 90, standoff 0, extent 650,-45.99 750,46
3D body: height 320, standoff -90, extent 587.5,-12.5 612.5,12.5
3D body: height 90, standoff 0, extent 550,-45.99 650,46
3D body: height 320, standoff -90, extent 487.5,-12.5 512.5,12.5
3D body: height 90, standoff 0, extent 450,-45.99 550,46
3D body: height 320, standoff -90, extent 387.5,-12.5 412.5,12.5
3D body: height 90, standoff 0, extent 350,-45.99 450,46

## SP-140520-34-001 [mil] "2.54mm Pitch Socket, Single Row, Straight"
pads (34):
  rect 50x70 hole 35: 1(0,0)
  oval 50x70 hole 35: 2(100,0) 3(200,0) 4(300,0) 5(400,0) 6(500,0) 7(600,0) 8(700,0) 9(800,0) 10(900,0) 11(1000,0) 12(1100,0) 13(1200,0) 14(1300,0) 15(1400,0) 16(1500,0) 17(1600,0) 18(1700,0) 19(1800,0) 20(1900,0) 21(2000,0) 22(2100,0) 23(2200,0) 24(2300,0) 25(2400,0) 26(2500,0) 27(2600,0) 28(2700,0) 29(2800,0) 30(2900,0) 31(3000,0) 32(3100,0) 33(3200,0) 34(3300,0)
Top Overlay:
  lines w7.87: 50,-50 50,50 ; -50,-50 3350,-50 3350,50 -50,50 -50,-50
Mechanical 1:
  lines w7.87: 50,-50 50,50 ; -50,-50 -50,50 3350,50 3350,-50 -50,-50
3D body: height 320, standoff -90, extent 3287.5,-12.5 3312.5,12.5
3D body: height 90, standoff 0, extent 3250,-45.99 3350,46
3D body: height 320, standoff -90, extent 3187.5,-12.5 3212.5,12.5
3D body: height 90, standoff 0, extent 3150,-45.99 3250,46
3D body: height 320, standoff -90, extent 2687.5,-12.5 2712.5,12.5
3D body: height 90, standoff 0, extent 2650,-45.99 2750,46
3D body: height 320, standoff -90, extent 2587.5,-12.5 2612.5,12.5
3D body: height 90, standoff 0, extent 2550,-45.99 2650,46
3D body: height 320, standoff -90, extent 2487.5,-12.5 2512.5,12.5
3D body: height 90, standoff 0, extent 2450,-45.99 2550,46
3D body: height 320, standoff -90, extent 2387.5,-12.5 2412.5,12.5
3D body: height 90, standoff 0, extent 2350,-45.99 2450,46
3D body: height 320, standoff -90, extent 3087.5,-12.5 3112.5,12.5
3D body: height 90, standoff 0, extent 3050,-45.99 3150,46
3D body: height 320, standoff -90, extent 2987.5,-12.5 3012.5,12.5
3D body: height 90, standoff 0, extent 2950,-45.99 3050,46
3D body: height 320, standoff -90, extent 2887.5,-12.5 2912.5,12.5
3D body: height 90, standoff 0, extent 2850,-45.99 2950,46
3D body: height 320, standoff -90, extent 2787.5,-12.5 2812.5,12.5
3D body: height 90, standoff 0, extent 2750,-45.99 2850,46
3D body: height 320, standoff -90, extent 1887.5,-12.5 1912.5,12.5
3D body: height 90, standoff 0, extent 1850,-45.99 1950,46
3D body: height 320, standoff -90, extent 1787.5,-12.5 1812.5,12.5
3D body: height 90, standoff 0, extent 1750,-45.99 1850,46
3D body: height 320, standoff -90, extent 1687.5,-12.5 1712.5,12.5
3D body: height 90, standoff 0, extent 1650,-45.99 1750,46
3D body: height 320, standoff -90, extent 1587.5,-12.5 1612.5,12.5
3D body: height 90, standoff 0, extent 1550,-45.99 1650,46
3D body: height 320, standoff -90, extent 2287.5,-12.5 2312.5,12.5
3D body: height 90, standoff 0, extent 2250,-45.99 2350,46
3D body: height 320, standoff -90, extent 2187.5,-12.5 2212.5,12.5
3D body: height 90, standoff 0, extent 2150,-45.99 2250,46
3D body: height 320, standoff -90, extent 2087.5,-12.5 2112.5,12.5
3D body: height 90, standoff 0, extent 2050,-45.99 2150,46
3D body: height 320, standoff -90, extent 1987.5,-12.5 2012.5,12.5
3D body: height 90, standoff 0, extent 1950,-45.99 2050,46
3D body: height 320, standoff -90, extent 1087.5,-12.5 1112.5,12.5
3D body: height 90, standoff 0, extent 1050,-45.99 1150,46
3D body: height 320, standoff -90, extent 987.5,-12.5 1012.5,12.5
3D body: height 90, standoff 0, extent 950,-45.99 1050,46
3D body: height 320, standoff -90, extent 887.5,-12.5 912.5,12.5
3D body: height 90, standoff 0, extent 850,-45.99 950,46
3D body: height 320, standoff -90, extent 787.5,-12.5 812.5,12.5
3D body: height 90, standoff 0, extent 750,-45.99 850,46
3D body: height 320, standoff -90, extent 1487.5,-12.5 1512.5,12.5
3D body: height 90, standoff 0, extent 1450,-45.99 1550,46
3D body: height 320, standoff -90, extent 1387.5,-12.5 1412.5,12.5
3D body: height 90, standoff 0, extent 1350,-45.99 1450,46
3D body: height 320, standoff -90, extent 1287.5,-12.5 1312.5,12.5
3D body: height 90, standoff 0, extent 1250,-45.99 1350,46
3D body: height 320, standoff -90, extent 1187.5,-12.5 1212.5,12.5
3D body: height 90, standoff 0, extent 1150,-45.99 1250,46
3D body: height 320, standoff -90, extent 287.5,-12.5 312.5,12.5
3D body: height 90, standoff 0, extent 250,-45.99 350,46
3D body: height 320, standoff -90, extent 187.5,-12.5 212.5,12.5
3D body: height 90, standoff 0, extent 150,-45.99 250,46
3D body: height 320, standoff -90, extent 87.5,-12.5 112.5,12.5
3D body: height 90, standoff 0, extent 50,-45.99 150,46
3D body: height 320, standoff -90, extent -12.5,-12.5 12.5,12.5
3D body: height 90, standoff 0, extent -50,-45.99 50,46
3D body: height 320, standoff -90, extent 687.5,-12.5 712.5,12.5
3D body: height 90, standoff 0, extent 650,-45.99 750,46
3D body: height 320, standoff -90, extent 587.5,-12.5 612.5,12.5
3D body: height 90, standoff 0, extent 550,-45.99 650,46
3D body: height 320, standoff -90, extent 487.5,-12.5 512.5,12.5
3D body: height 90, standoff 0, extent 450,-45.99 550,46
3D body: height 320, standoff -90, extent 387.5,-12.5 412.5,12.5
3D body: height 90, standoff 0, extent 350,-45.99 450,46

## SP-140520-35-001 [mil] "2.54mm Pitch Socket, Single Row, Straight"
pads (35):
  rect 50x70 hole 35: 1(0,0)
  oval 50x70 hole 35: 2(100,0) 3(200,0) 4(300,0) 5(400,0) 6(500,0) 7(600,0) 8(700,0) 9(800,0) 10(900,0) 11(1000,0) 12(1100,0) 13(1200,0) 14(1300,0) 15(1400,0) 16(1500,0) 17(1600,0) 18(1700,0) 19(1800,0) 20(1900,0) 21(2000,0) 22(2100,0) 23(2200,0) 24(2300,0) 25(2400,0) 26(2500,0) 27(2600,0) 28(2700,0) 29(2800,0) 30(2900,0) 31(3000,0) 32(3100,0) 33(3200,0) 34(3300,0) 35(3400,0)
Top Overlay:
  lines w7.87: 50,-50 50,50 ; -50,-50 -50,50 3450,50 3450,-50 -50,-50
Mechanical 1:
  lines w7.87: 50,-50 50,50 ; -50,-50 3450,-50 3450,50 -50,50 -50,-50
3D body: height 320, standoff -90, extent 3387.5,-12.5 3412.5,12.5
3D body: height 90, standoff 0, extent 3350,-45.99 3450,46
3D body: height 320, standoff -90, extent 3287.5,-12.5 3312.5,12.5
3D body: height 90, standoff 0, extent 3250,-45.99 3350,46
3D body: height 320, standoff -90, extent 3187.5,-12.5 3212.5,12.5
3D body: height 90, standoff 0, extent 3150,-45.99 3250,46
3D body: height 320, standoff -90, extent 2687.5,-12.5 2712.5,12.5
3D body: height 90, standoff 0, extent 2650,-45.99 2750,46
3D body: height 320, standoff -90, extent 2587.5,-12.5 2612.5,12.5
3D body: height 90, standoff 0, extent 2550,-45.99 2650,46
3D body: height 320, standoff -90, extent 2487.5,-12.5 2512.5,12.5
3D body: height 90, standoff 0, extent 2450,-45.99 2550,46
3D body: height 320, standoff -90, extent 2387.5,-12.5 2412.5,12.5
3D body: height 90, standoff 0, extent 2350,-45.99 2450,46
3D body: height 320, standoff -90, extent 3087.5,-12.5 3112.5,12.5
3D body: height 90, standoff 0, extent 3050,-45.99 3150,46
3D body: height 320, standoff -90, extent 2987.5,-12.5 3012.5,12.5
3D body: height 90, standoff 0, extent 2950,-45.99 3050,46
3D body: height 320, standoff -90, extent 2887.5,-12.5 2912.5,12.5
3D body: height 90, standoff 0, extent 2850,-45.99 2950,46
3D body: height 320, standoff -90, extent 2787.5,-12.5 2812.5,12.5
3D body: height 90, standoff 0, extent 2750,-45.99 2850,46
3D body: height 320, standoff -90, extent 1887.5,-12.5 1912.5,12.5
3D body: height 90, standoff 0, extent 1850,-45.99 1950,46
3D body: height 320, standoff -90, extent 1787.5,-12.5 1812.5,12.5
3D body: height 90, standoff 0, extent 1750,-45.99 1850,46
3D body: height 320, standoff -90, extent 1687.5,-12.5 1712.5,12.5
3D body: height 90, standoff 0, extent 1650,-45.99 1750,46
3D body: height 320, standoff -90, extent 1587.5,-12.5 1612.5,12.5
3D body: height 90, standoff 0, extent 1550,-45.99 1650,46
3D body: height 320, standoff -90, extent 2287.5,-12.5 2312.5,12.5
3D body: height 90, standoff 0, extent 2250,-45.99 2350,46
3D body: height 320, standoff -90, extent 2187.5,-12.5 2212.5,12.5
3D body: height 90, standoff 0, extent 2150,-45.99 2250,46
3D body: height 320, standoff -90, extent 2087.5,-12.5 2112.5,12.5
3D body: height 90, standoff 0, extent 2050,-45.99 2150,46
3D body: height 320, standoff -90, extent 1987.5,-12.5 2012.5,12.5
3D body: height 90, standoff 0, extent 1950,-45.99 2050,46
3D body: height 320, standoff -90, extent 1087.5,-12.5 1112.5,12.5
3D body: height 90, standoff 0, extent 1050,-45.99 1150,46
3D body: height 320, standoff -90, extent 987.5,-12.5 1012.5,12.5
3D body: height 90, standoff 0, extent 950,-45.99 1050,46
3D body: height 320, standoff -90, extent 887.5,-12.5 912.5,12.5
3D body: height 90, standoff 0, extent 850,-45.99 950,46
3D body: height 320, standoff -90, extent 787.5,-12.5 812.5,12.5
3D body: height 90, standoff 0, extent 750,-45.99 850,46
3D body: height 320, standoff -90, extent 1487.5,-12.5 1512.5,12.5
3D body: height 90, standoff 0, extent 1450,-45.99 1550,46
3D body: height 320, standoff -90, extent 1387.5,-12.5 1412.5,12.5
3D body: height 90, standoff 0, extent 1350,-45.99 1450,46
3D body: height 320, standoff -90, extent 1287.5,-12.5 1312.5,12.5
3D body: height 90, standoff 0, extent 1250,-45.99 1350,46
3D body: height 320, standoff -90, extent 1187.5,-12.5 1212.5,12.5
3D body: height 90, standoff 0, extent 1150,-45.99 1250,46
3D body: height 320, standoff -90, extent 287.5,-12.5 312.5,12.5
3D body: height 90, standoff 0, extent 250,-45.99 350,46
3D body: height 320, standoff -90, extent 187.5,-12.5 212.5,12.5
3D body: height 90, standoff 0, extent 150,-45.99 250,46
3D body: height 320, standoff -90, extent 87.5,-12.5 112.5,12.5
3D body: height 90, standoff 0, extent 50,-45.99 150,46
3D body: height 320, standoff -90, extent -12.5,-12.5 12.5,12.5
3D body: height 90, standoff 0, extent -50,-45.99 50,46
3D body: height 320, standoff -90, extent 687.5,-12.5 712.5,12.5
3D body: height 90, standoff 0, extent 650,-45.99 750,46
3D body: height 320, standoff -90, extent 587.5,-12.5 612.5,12.5
3D body: height 90, standoff 0, extent 550,-45.99 650,46
3D body: height 320, standoff -90, extent 487.5,-12.5 512.5,12.5
3D body: height 90, standoff 0, extent 450,-45.99 550,46
3D body: height 320, standoff -90, extent 387.5,-12.5 412.5,12.5
3D body: height 90, standoff 0, extent 350,-45.99 450,46